# EAGLE library part 6POLE (library Connector-Housing)
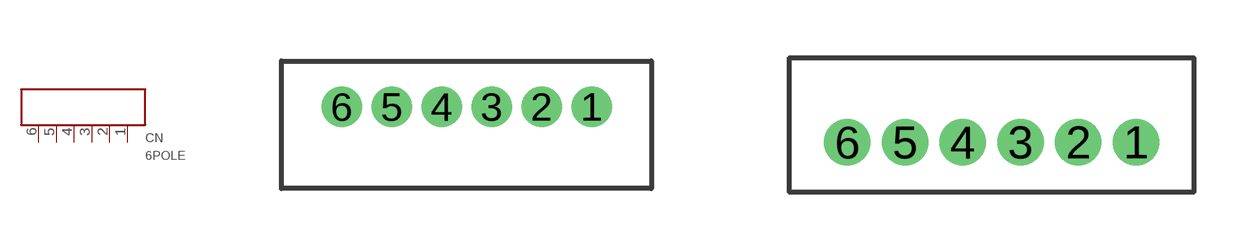
[diagram p0: symbol with the pads of 53047-0610(1.25MM_PITCH); footprints 53047-0610(1.25MM_PITCH), B6B-ZR(1.5MM_PITCH)]

Designator prefix CN

## 6POLE-53047  [53047-0610(1.25MM_PITCH)]
1  P$6
2  P$5
3  P$4
4  P$3
5  P$2
6  P$1

## 6POLE-ZR  [B6B-ZR(1.5MM_PITCH)]
Pads as for 53047-0610(1.25MM_PITCH)

## 6POLE-PASK  [B06B-PASK(2MM_PITCH)]
Pads as for 53047-0610(1.25MM_PITCH)

## Footprint 53047-0610(1.25MM_PITCH) (pad centres in mm)
53047-0610 1.25mm pitch , 6pole connector Producted by molex.
drill 0.5 round: 1 3.135,0; 2 1.885,0; 3 0.635,0; 4 -0.615,0; 5 -1.865,0; 6 -3.115,0

## Footprint B6B-ZR(1.5MM_PITCH) (pad centres in mm)
B6B-ZR _ZH series 1.5mm pitch connector Producted by JST.
drill 0.7 round: 1 3.75,0; 2 2.25,0; 3 0.75,0; 4 -0.75,0; 5 -2.25,0; 6 -3.75,0

## Footprint B06B-PASK(2MM_PITCH) (pad centres in mm)
B06B-PASK _PA series 2.0mm pitch connector Producted by JST.
drill 1 round: 1 5,0; 6 -5,0
drill 0.8 round: 2 3,0; 3 1,0; 4 -1,0; 5 -3,0
hole 0.9 at 6.5,1.7